# Altium footprint library RJ.pcblib: 2 footprints
Each footprint in its own frame and in the unit in brackets; x right, y up, seen from the top. Pads: shape width x height; smd on the part's side, far side on the other; paste and mask are expansions set on the pad; w line width, h text height; cw(c..) or ccw(c..) is an arc to the next point about the centre after c.
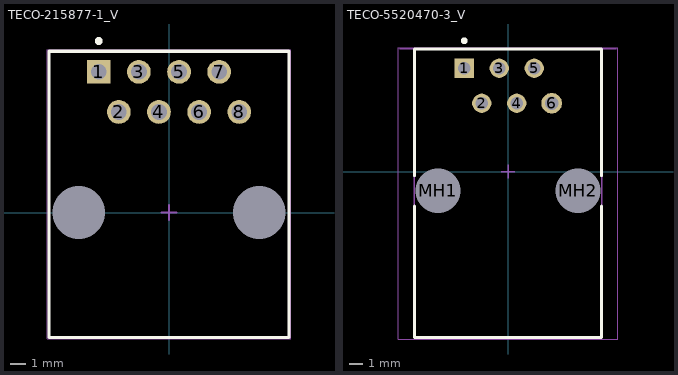
[diagram p0: the footprints below, top view; thin cyan lines are the x and y axes]

## TECO-215877-1_V [mm] "TH, 8-Leads, Body 18.1x15.2mm"
height 11.5
pads (10):
  rect 1.5x1.5 hole 1: 1(-4.445,8.9)
  round 1.5 hole 1: 2(-3.175,6.36) 3(-1.905,8.9) 4(-0.635,6.36) 5(0.635,8.9) 6(1.905,6.36) 7(3.175,8.9) 8(4.445,6.36)
  rect 0x0 hole 3.33 unplated: ""(-5.715,0) ""(5.715,0)
Top Overlay:
  circle w0.25: c-4.445,10.85 r0.125
  lines w0.2: -7.6,-7.9 7.6,-7.9 7.6,10.2 -7.6,10.2 -7.6,-7.9
Mechanical 13:
  lines w0.1: -7.6,-7.9 -7.6,10.2 7.6,10.2 7.6,-7.9 -7.6,-7.9
Mechanical 15:
  lines w0.05: -7.7,-8 -7.7,10.3 7.7,10.3 7.7,-8 -7.7,-8
  lines w0.1: -0.5,0 0.5,0 ; 0,-0.5 0,0.5
3D body: height 11.5, standoff 0, extent -7.599,-7.899 7.599,10.199

## TECO-5520470-3_V [mm] "THD, 6-Leads, Body 20.96x13.59mm, Pitch 1.27mm"
height 16.13
pads (8):
  rect 1.4x1.4 hole 0.89: 1(-3.175,7.5)
  round 1.4 hole 0.89: 2(-1.905,4.96) 3(-0.635,7.5) 4(0.635,4.96) 5(1.905,7.5)
  round 1.5 hole 1: 6(3.175,4.96)
  round 3 hole 3.25 unplated: MH1(-5.075,-1.39) MH2(5.085,-1.39)
Top Overlay:
  circle w0.25: c-3.175,9.5 r0.125
  lines w0.2: -6.795,-2.5 -6.795,-12.06 6.795,-12.06 6.795,-2.5 ; -6.795,-0.3 -6.795,8.9 6.795,8.9 6.795,-0.3
Mechanical 13:
  lines w0.05: -7.874,8.9 7.874,8.9
  lines w0.1: -6.795,-12.06 -6.795,8.9 6.795,8.9 6.795,-12.06 -6.795,-12.06
Mechanical 15:
  lines w0.05: -7.974,-12.16 -7.974,9 7.974,9 7.974,-12.16 -7.974,-12.16
  lines w0.1: -0.5,0 0.5,0 ; 0,-0.5 0,0.5
3D body "5520470-3.stp": height 16.13, standoff -3.43, extent -7.874,-12.06 7.874,8.9